# EAGLE library part AD8276 (library PNP)
Single-Supply, Rail-to-Rail, Low Power, FET Input Op Amp Source: http://www.analog.com/static/imported-files/data_sheets/AD820.pdf
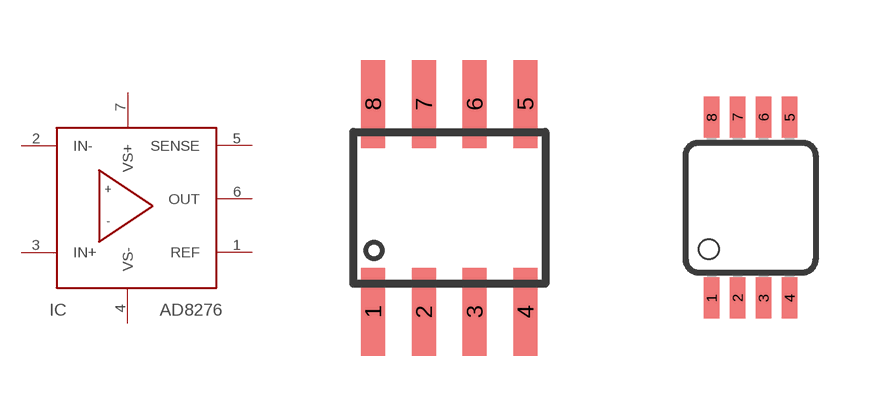
[diagram p1: symbol with the pads of SO8; footprints SO8, MSOP08]

Designator prefix IC

## AD8276R (OC_FARNELL: 1838867; OC_NEWARK: unknown)  [SO8]
1  REF
2  IN-  in
3  IN+  in
4  VS-  pwr
5  SENSE  out
6  OUT
7  VS+  pwr

## AD8276RM (MF: ALTERA CORPORATION; MPN: AD820ARZ; OC_FARNELL: 9426469; OC_NEWARK: 88H0196)  [MSOP08]
Pads as for SO8

## Footprint SO8 (pad centres in mm)
8-Lead Small Outline IC (SO-8) Source: http://www.analog.com/UploadedFiles/Data_Sheets/703465986AD8611_2_0.pdf
smd 0.6 x 2.2: 1 -1.905,-2.6; 2 -0.635,-2.6; 3 0.635,-2.6; 4 1.905,-2.6; 5 1.905,2.6; 6 0.635,2.6; 7 -0.635,2.6; 8 -1.905,2.6

## Footprint MSOP08 (pad centres in mm)
8-Lead micro SO (RM-8) Source: http://www.analog.com/UploadedFiles/Data_Sheets/703465986AD8611_2_0.pdf
smd 0.381 x 1.016: 1 -0.976,-2.263; 2 -0.326,-2.263; 3 0.324,-2.263; 4 0.974,-2.263; 5 0.974,2.262; 6 0.324,2.262; 7 -0.326,2.262; 8 -0.976,2.262